# Altium footprint library CON 2x10x50milSMT.PcbLib: 1 footprints
Each footprint in its own frame and in the unit in brackets; x right, y up, seen from the top. Pads: shape width x height; smd on the part's side, far side on the other; paste and mask are expansions set on the pad; w line width, h text height; cw(c..) or ccw(c..) is an arc to the next point about the centre after c.
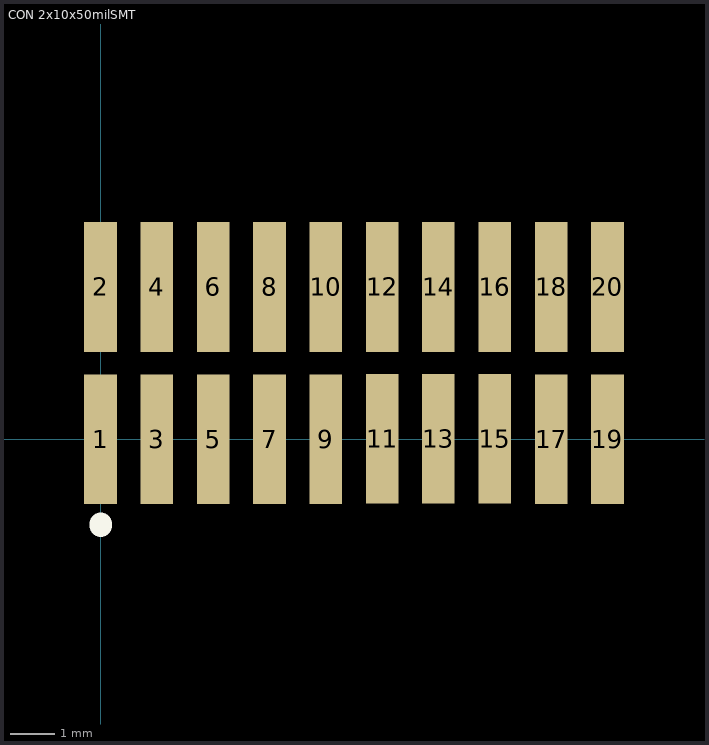
[diagram p0: the footprint, top view; thin cyan lines are the x and y axes]

## CON 2x10x50milSMT [mil]
pads (20):
  rect 29x115 smd: 1(0,0) 2(0,135) 3(50,0) 4(50,135) 5(100,0) 6(100,135) 7(150,0) 8(150,135) 9(200,0) 10(200,135) 11(250.14,0.06) 12(250.14,135) 13(299.87,0.06) 14(299.87,135) 15(350.08,0.06) 16(350.08,135) 17(400,0) 18(400,135) 19(450,0) 20(450,135)
TopOverlay:
  lines w20: 0,-77 0,-75